# EAGLE library part ZXM62P03E6 (library Diodes_Inc_By_element14_Batch_1)
Enhancement mode P channel Mosfet
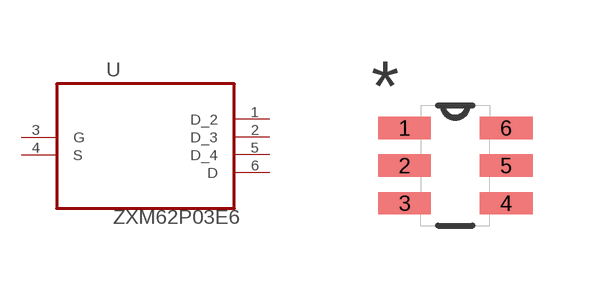
[diagram p52: symbol with the pads of SOT95P280X145-6N; footprint SOT95P280X145-6N]

Designator prefix U

## ZXM62P03E6 (MPN: ZXM62P03E6; OC_FARNELL: 9525327; OC_NEWARK: 98K4141; PACKAGE: SOT-23-6; SUPPLIER: Diodes Incorporated)  [SOT95P280X145-6N]
1  D_2  out
2  D_3  out
3  G  in
4  S  in
5  D_4  out
6  D  out

## Footprint SOT95P280X145-6N (pad centres in mm)
smd 1.321 x 0.559: 1 -1.27,0.94; 2 -1.27,0; 3 -1.27,-0.94; 4 1.27,-0.94; 5 1.27,0; 6 1.27,0.94